# Altium footprint library CON EHF-108-01-x-D-SM-LC.PcbLib: 1 footprints
Each footprint in its own frame and in the unit in brackets; x right, y up, seen from the top. Pads: shape width x height; smd on the part's side, far side on the other; paste and mask are expansions set on the pad; w line width, h text height; cw(c..) or ccw(c..) is an arc to the next point about the centre after c.
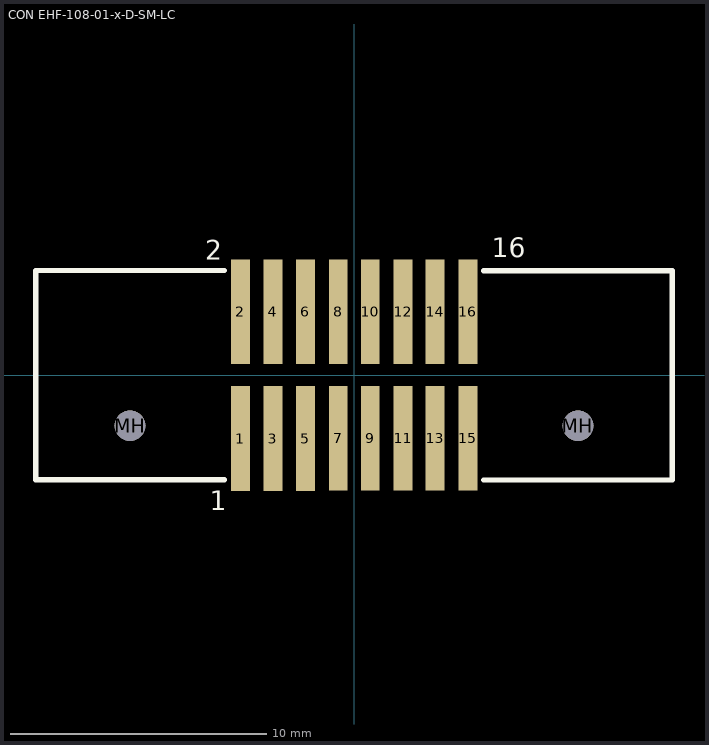
[diagram p0: the footprint, top view; thin cyan lines are the x and y axes]

## CON EHF-108-01-x-D-SM-LC [mil] "Samtec Surface Mount Connector"
height 445
pads (18):
  rect 29x161 smd: 1(-174.81,-97.58) 2(-174.81,97.42) 3(-124.81,-97.58) 4(-124.81,97.42) 5(-74.81,-97.58) 6(-74.81,97.42) 7(-24.26,-97.42) 8(-24.26,97.58) 9(25,-97.42) 10(25,97.58) 11(75.56,-97.42) 12(75.56,97.58) 13(124.83,-97.42) 14(124.83,97.58) 15(175.39,-97.42) 16(175.39,97.58)
  round 47 hole 47 unplated: MH(-344.81,-77.58) MH(344.81,-77.89)
TopOverlay:
  lines w8: -199.81,-161.08 -489.81,-161.08 -489.81,160.92 -199.81,160.92 ; 199.81,-161.38 489.81,-161.38 489.81,160.62 199.81,160.62
  text "16" at 211.81,181.62 h30
  text "2" at -228.81,177.92 h30
  text "1" at -221.81,-208.08 h30
3D body: height 451.89, standoff -53.4, extent -485,-148 485,148